# EAGLE library part SILABS_SI570 (library Radioberry)
ANY-RATE I2C PROGRAMMABLE XO/VCXO Source: si570.pdf
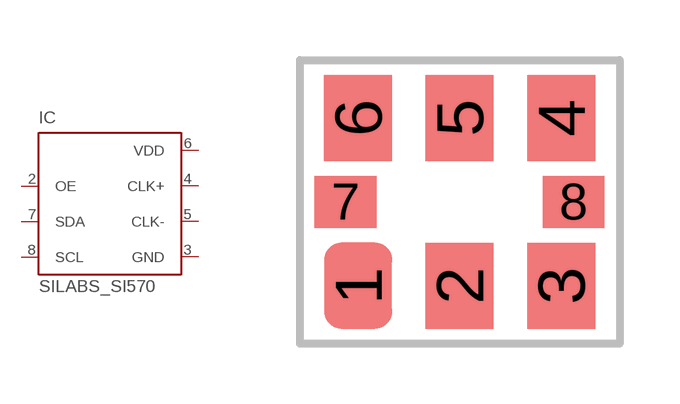
[diagram p4: symbol with the pads of SILABS_8-PIN; footprint SILABS_8-PIN]

Designator prefix IC

## SILABS_SI570 (OC_FARNELL: unknown; OC_NEWARK: unknown)  [SILABS_8-PIN]
2  OE  in
3  GND  pwr
4  CLK+  out
5  CLK-  out
6  VDD  pwr
7  SDA  in
8  SCL  in

## Footprint SILABS_8-PIN (pad centres in mm)
8-Pin PCB Land Pattern Source: si750.pdf
smd 1.7 x 2.15: 1 -2.54,-2.1; 2 0,-2.1; 3 2.54,-2.1; 4 2.54,2.1; 5 0,2.1; 6 -2.54,2.1
smd 1.545 x 1.3: 7 -2.853,0; 8 2.852,0